# Altium schematic symbol library KLS1-XL1-1.25-xx-x conn.SchLib: 1 symbol
Pins are listed as number, name and electrical type; pins without a type are passive.

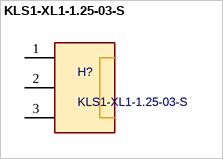
[diagram p0: symbol KLS1-XL1-1.25-03-S]

## KLS1-XL1-1.25-03-S
designator H?
Manufacturer: *; Part number: KLS1-XL1-1.25-03-S
footprint KLS1-XL1-1.25-03-S
pins: 1, 2, 3